# Altium footprint library adafruit_metro_mini.PCBLIB: 2 footprints
Each footprint in its own frame and in the unit in brackets; x right, y up, seen from the top. Pads: shape width x height; smd on the part's side, far side on the other; paste and mask are expansions set on the pad; w line width, h text height; cw(c..) or ccw(c..) is an arc to the next point about the centre after c.
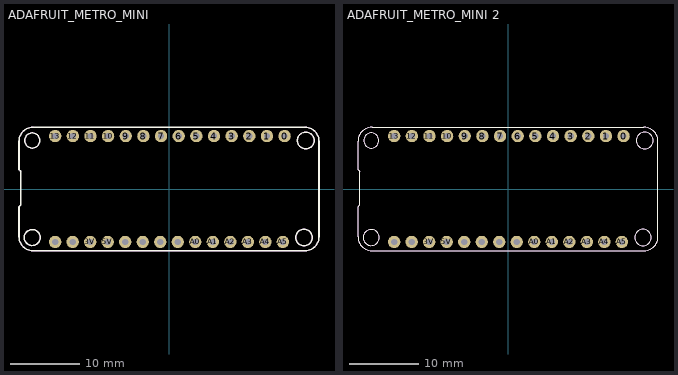
[diagram p0: the footprints below, top view; thin cyan lines are the x and y axes]

## ADAFRUIT_METRO_MINI [mil]
pads (28):
  round 70 / inner round 60 / far side round 70 hole 35.43: 0(655,300) 1(555,300) 2(455,300) 3(355,300) 3V(-446.54,-300) 4(255,300) 5(155,300) 5V(-347.31,-300) 6(55,300) 7(-45,300) 8(-145,300) 9(-245,300) 10(-345,300) 11(-445,300) 12(-545,300) 13(-645,300) A0(148.84,-300) A1(248.08,-300) A2(347.31,-300) A3(446.54,-300) A4(545.77,-300) A5(645,-300) AREF(49.61,-300) GND(-248.08,-300) GND(-148.85,-300) RST(-545.77,-300) USB(-645,-300) VIN(-49.62,-300)
Top Overlay:
  circle w8.54: c-775,275 r43.01
  circle w8.54: c-775,-275 r45.28
  circle w8.54: c765,-275 r47.17
  circle w8.54: c775,275 r47.43
  lines w8.54: -850,-270 ccw(c-770,-270) -770,-350 770,-350 ccw(c770,-270) 850,-270 850,270 ccw(c770,270) 770,350 -770,350 ccw(c-770,270) -850,270 -850,110 -840,100 -840,-90 -850,-100 -850,-270
Dimension:
  circle w5: c775,275 r47.43
  circle w5: c765,-275 r47.17
  circle w5: c-775,-275 r45.28
  circle w5: c-775,275 r43.01
  lines w5: -850,-270 ccw(c-770,-270) -770,-350 770,-350 ccw(c770,-270) 850,-270 850,270 ccw(c770,270) 770,350 -770,350 ccw(c-770,270) -850,270 -850,110 -840,100 -840,-90 -850,-100 -850,-270
3D body "User Library-PH1-14-UA (14 pin connector).STEP": height 297.76, standoff -156.97, extent -699.91,-347.42 700.38,-249
3D body "User Library-PH1-14-UA (14 pin connector).STEP": height 297.76, standoff -156.97, extent -695.28,252.58 705,351
3D body "User Library-ArduinoMetroMini v24.step": height 358.27, standoff 181.1, extent -855.58,-343.52 829.46,337.59

## ADAFRUIT_METRO_MINI 2 [mil] "No Headers"
pads (28):
  round 70 / inner round 60 / far side round 70 hole 35.43: 0(655,300) 1(555,300) 2(455,300) 3(355,300) 3V(-446.54,-300) 4(255,300) 5(155,300) 5V(-347.31,-300) 6(55,300) 7(-45,300) 8(-145,300) 9(-245,300) 10(-345,300) 11(-445,300) 12(-545,300) 13(-645,300) A0(148.84,-300) A1(248.08,-300) A2(347.31,-300) A3(446.54,-300) A4(545.77,-300) A5(645,-300) AREF(49.61,-300) GND(-248.08,-300) GND(-148.85,-300) RST(-545.77,-300) USB(-645,-300) VIN(-49.62,-300)
Top Overlay:
  circle w5: c775,275 r47.43
  circle w5: c765,-275 r47.17
  circle w5: c-775,-275 r45.28
  circle w5: c-775,275 r43.01
  lines w5: -850,-270 ccw(c-770,-270) -770,-350 770,-350 ccw(c770,-270) 850,-270 850,270 ccw(c770,270) 770,350 -770,350 ccw(c-770,270) -850,270 -850,110 -840,100 -840,-90 -850,-100 -850,-270
Dimension:
  circle w5: c-775,275 r43.01
  circle w5: c-775,-275 r45.28
  circle w5: c765,-275 r47.17
  circle w5: c775,275 r47.43
  lines w5: -850,-270 ccw(c-770,-270) -770,-350 770,-350 ccw(c770,-270) 850,-270 850,270 ccw(c770,270) 770,350 -770,350 ccw(c-770,270) -850,270 -850,110 -840,100 -840,-90 -850,-100 -850,-270
3D body "User Library-ArduinoMetroMini v24.step": height 279.53, standoff 102.36, extent -855.58,-343.51 829.46,337.59